# EAGLE library part CON44_TOP (library JAMMA)
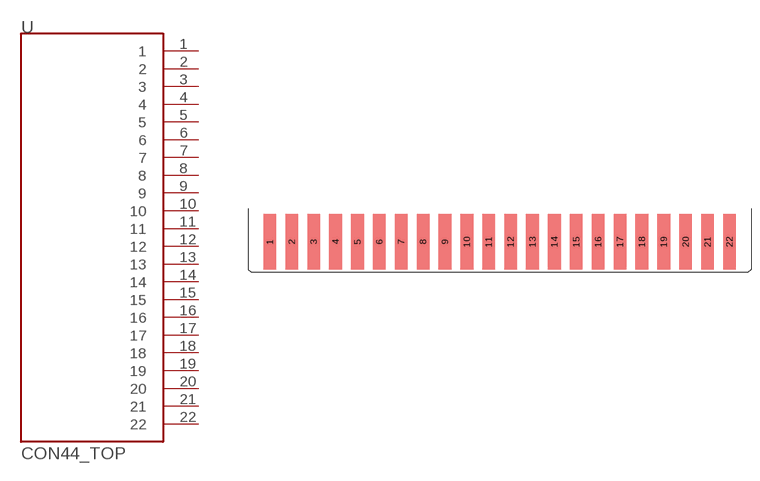
[diagram p3: symbol with the pads of CON44_TOP; footprint CON44_TOP]

Designator prefix -

## CON44_TOP  [CON44_TOP]
1  1  out
2  2  out
3  3  out
4  4  out
5  5  out
6  6  out
7  7  in
8  8  in
9  9  in
10  10  in
11  11  in
12  12  in
13  13  in
14  14  in
15  15  in
16  16  in
17  17  in
18  18  in
19  19  in
20  20  in
21  21  in
22  22  in

## Footprint CON44_TOP (pad centres in mm)
smd 2.3 x 10: 1 -11.92,1.27; 2 -7.96,1.27; 3 -4,1.27; 4 -0.04,1.27; 5 3.92,1.27; 6 7.88,1.27; 7 11.84,1.27; 8 15.8,1.27; 9 19.76,1.27; 10 23.72,1.27; 11 27.68,1.27; 12 31.64,1.27; 13 35.6,1.27; 14 39.56,1.27; 15 43.52,1.27; 16 47.48,1.27; 17 51.44,1.27; 18 55.4,1.27; 19 59.36,1.27; 20 63.32,1.27; 21 67.28,1.27; 22 71.24,1.27